# Altium footprint library PCB - POWER MODULE - GAPTEC LCB78_0.5.PcbLib: 1 footprints
Each footprint in its own frame and in the unit in brackets; x right, y up, seen from the top. Pads: shape width x height; smd on the part's side, far side on the other; paste and mask are expansions set on the pad; w line width, h text height; cw(c..) or ccw(c..) is an arc to the next point about the centre after c.
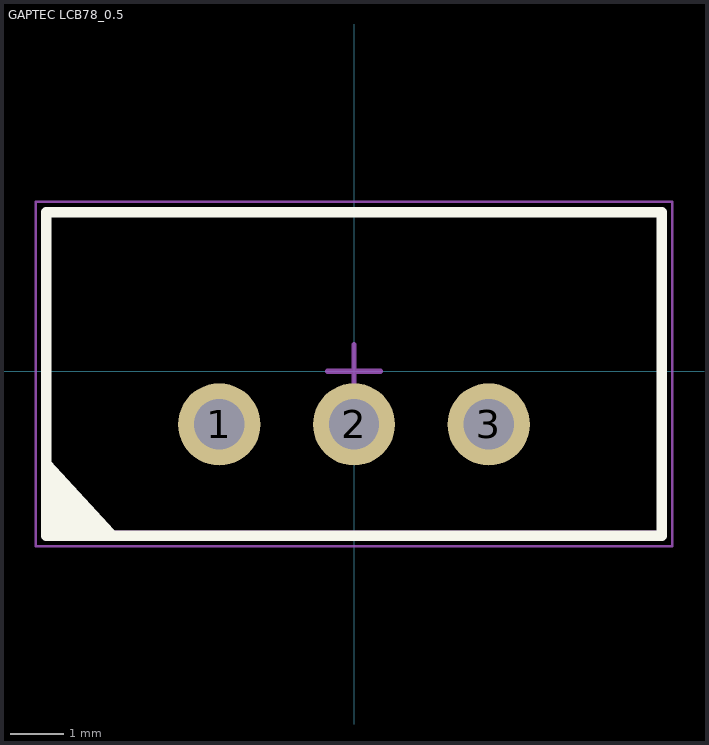
[diagram p0: the footprint, top view; thin cyan lines are the x and y axes]

## GAPTEC LCB78_0.5 [mm] "Wide Input Non-Isolated & Regulated, Single Output"
height 10.2
pads (3):
  round 1.55 hole 0.95: 1(-2.54,-1) 2(0,-1) 3(2.54,-1)
Top Overlay:
  region: -5.8,-1.75 -4.6,-3.05 -5.8,-3.05
  lines w0.2: -5.8,-1.75 -4.6,-3.05 ; -5.8,-3.1 -5.8,3 5.8,3 5.8,-3.1 -5.8,-3.1
Top Assembly:
  circle w0.2: c-2.54,-1 r0.519
  lines w0.1: -5.8,-3.1 -5.8,3 5.8,3 5.8,-3.1 ; -5.8,-3.05 5.8,-3.05 ; -0.5,0 0,0 ; 0,-0.45 0,0 ; 0,0.5 0,0 ; 0.5,0 0,0
Top Courtyard (Mech15):
  lines w0.05: -6,-3.3 -6,3.2 6,3.2 6,-3.3 -6,-3.3
3D body "Gaptec LCB78.step": height 10.2, standoff -4, extent -5.8,-3 5.8,3